# EAGLE library part ESP12E_DEVKIT (library ESP12E_DEVKIT)
ESP12E DEVKIT BOARD
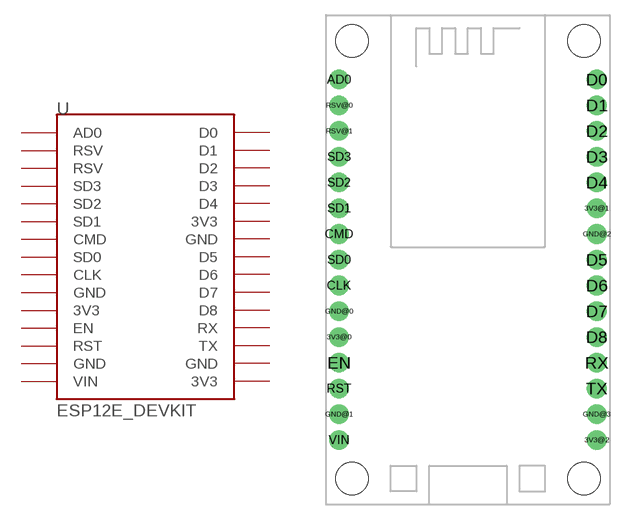
[diagram p0: symbol with the pads of ESP12E_DEVKIT; footprint ESP12E_DEVKIT]

Designator prefix -

## ESP12E_DEVKIT  [ESP12E_DEVKIT]
3V3@0  3V3
3V3@1  3V3
3V3@2  3V3
AD0  AD0
CLK  CLK
CMD  CMD
D0  D0
D1  D1
D2  D2
D3  D3
D4  D4
D5  D5
D6  D6
D7  D7
D8  D8
EN  EN
GND@0  GND
GND@1  GND
GND@2  GND
GND@3  GND
RST  RST
RSV@0  RSV
RSV@1  RSV
RX  RX
SD0  SD0
SD1  SD1
SD2  SD2
SD3  SD3
TX  TX
VIN  VIN

## ESP12E_DEVKITLOLIN  [ESP12E_DEVKIT]

## Footprint ESP12E_DEVKIT (pad centres in mm)
ESP12E_DEVKIT
drill 0.8 pad 1.93: 3V3@0 -12.7,-7.62; 3V3@1 12.7,5.08; 3V3@2 12.7,-17.78; AD0 -12.7,17.78; CLK -12.7,-2.54; CMD -12.7,2.54; D0 12.7,17.78; D1 12.7,15.24; D2 12.7,12.7; D3 12.7,10.16; D4 12.7,7.62; D5 12.7,0; D6 12.7,-2.54; D7 12.7,-5.08; D8 12.7,-7.62; EN -12.7,-10.16; GND@0 -12.7,-5.08; GND@1 -12.7,-15.24; GND@2 12.7,2.54; GND@3 12.7,-15.24; RST -12.7,-12.7; RSV@0 -12.7,15.24; RSV@1 -12.7,12.7; RX 12.7,-10.16; SD0 -12.7,0; SD1 -12.7,5.08; SD2 -12.7,7.62; SD3 -12.7,10.16; TX 12.7,-12.7; VIN -12.7,-17.78
hole 3.2 at -11.43,21.59
hole 3.2 at 11.43,21.59
hole 3.2 at 11.43,-21.59
hole 3.2 at -11.43,-21.59